# EAGLE library part OP-QUAD (library CalvEngIO-AnalogIC)
General symbol and footprints for Quad Op Amps. Use with any standard general purpose op amp.
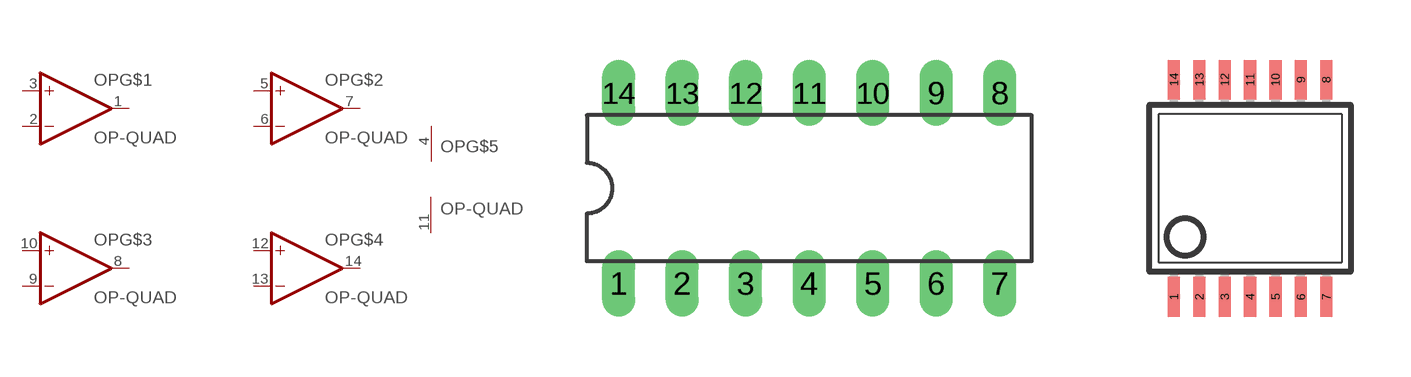
[diagram p0: symbol with the pads of DIP14; footprints DIP14, TSSOP14]

Designator prefix OP; gates G$1=OPAMP G$2=OPAMP G$3=OPAMP G$4=OPAMP G$5=PWR+-

## OP-QUAD-DIP14  [DIP14]
1  G$1:OUT  out
2  G$1:-IN  in
3  G$1:+IN  in
4  G$5:V+  pwr
5  G$2:+IN  in
6  G$2:-IN  in
7  G$2:OUT  out
8  G$3:OUT  out
9  G$3:-IN  in
10  G$3:+IN  in
11  G$5:V-  pwr
12  G$4:+IN  in
13  G$4:-IN  in
14  G$4:OUT  out

## OP-QUAD-TSSOP14  [TSSOP14]
Pads as for DIP14

## OP-QUAD-SO14  [SO14]
Pads as for DIP14

## OP-QUAD-SSOP14  [SSOP14]
Pads as for DIP14

## Footprint DIP14 (pad centres in mm)
Dual In Line Package
drill 0.813 long: 1 -7.62,-3.81; 2 -5.08,-3.81; 3 -2.54,-3.81; 4 0,-3.81; 5 2.54,-3.81; 6 5.08,-3.81; 7 7.62,-3.81; 8 7.62,3.81; 9 5.08,3.81; 10 2.54,3.81; 11 0,3.81; 12 -2.54,3.81; 13 -5.08,3.81; 14 -7.62,3.81

## Footprint TSSOP14 (pad centres in mm)
Thin Shrink Small Outline Plastic 14
smd 0.305 x 0.991: 1 -1.905,-2.718; 2 -1.27,-2.718; 3 -0.635,-2.718; 4 0,-2.718; 5 0.635,-2.718; 6 1.27,-2.718; 7 1.905,-2.718; 8 1.905,2.718; 9 1.27,2.718; 10 0.635,2.718; 11 0,2.718; 12 -0.635,2.718; 13 -1.27,2.718; 14 -1.905,2.718

## Footprint SO14 (pad centres in mm)
Small Outline Package 14
smd 0.6 x 2.2: 1 -3.81,-2.6; 2 -2.54,-2.6; 3 -1.27,-2.6; 4 0,-2.6; 5 1.27,-2.6; 6 2.54,-2.6; 7 3.81,-2.6; 8 3.81,2.6; 9 2.54,2.6; 10 1.27,2.6; 11 0,2.6; 12 -1.27,2.6; 13 -2.54,2.6; 14 -3.81,2.6

## Footprint SSOP14 (pad centres in mm)
Small Shrink Outline Package
smd 0.4 x 1.2: 1 -1.95,-2.925; 2 -1.3,-2.925; 3 -0.65,-2.925; 4 0,-2.925; 5 0.65,-2.925; 6 1.3,-2.925; 7 1.95,-2.925; 8 1.95,2.925; 9 1.3,2.925; 10 0.65,2.925; 11 0,2.925; 12 -0.65,2.925; 13 -1.3,2.925; 14 -1.95,2.925